# EAGLE library part MTA08-100 (library AMP_MTA)
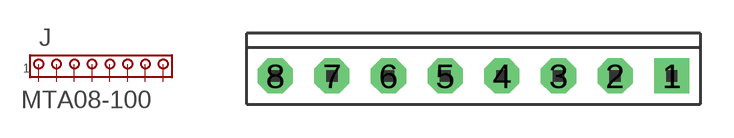
[diagram p2: symbol with the pads of 1X08MTA; footprint 1X08MTA]

Designator prefix J

## MTA08-100  [1X08MTA]
1  1
2  2
3  3
4  4
5  5
6  6
7  7
8  8

## Footprint 1X08MTA (pad centres in mm)
drill 1.016 pad 1.575 square: 1 5.08,0
drill 1.016 pad 1.575 octagon: 2 2.54,0; 3 0,0; 4 -2.54,0; 5 -5.08,0; 6 -7.62,0; 7 -10.16,0; 8 -12.7,0